# EAGLE library part SX1280 (library RFM95)
Mod Txrx Lora +20dbm 868mhz Smd
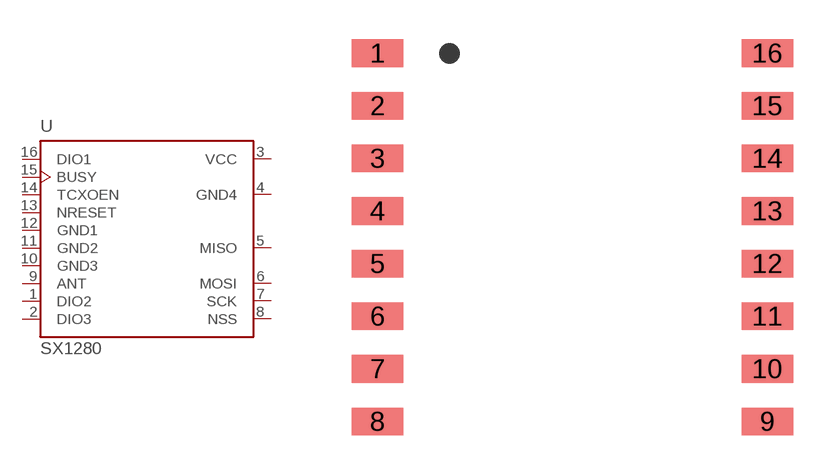
[diagram p1: symbol with the pads of SX1280; footprint SX1280]

Designator prefix U

## SX1280SX1280  [SX1280]
1  DIO2
2  DIO3
3  VCC  pwr
4  GND4  pwr
5  MISO
6  MOSI
7  SCK
8  NSS
9  ANT
10  GND3  pwr
11  GND2  pwr
12  GND1  pwr
13  NRESET
14  TCXOEN  in
15  BUSY  in
16  DIO1  in

## Footprint SX1280 (pad centres in mm)
smd 1.95 x 1.05: 1 -7.4,7; 2 -7.4,5; 3 -7.4,3; 4 -7.4,1; 5 -7.4,-1; 6 -7.4,-3; 7 -7.4,-5; 8 -7.4,-7; 9 7.4,-7; 10 7.4,-5; 11 7.4,-3; 12 7.4,-1; 13 7.4,1; 14 7.4,3; 15 7.4,5; 16 7.4,7